# EAGLE library part SD103ATW-7-F (library kmod-discretesemi)
Diode array: 3x Such as http://www.digikey.com/product-search/en?part=SD103ATW-FDICT-ND
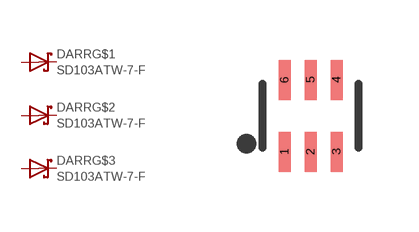
[diagram p0: symbol with the pads of SOT363; footprint SOT363]

Designator prefix DARR; gates G$1=DIODE_SCHOTTKY G$2=DIODE_SCHOTTKY G$3=DIODE_SCHOTTKY

## SD103ATW-7-F  [SOT363]
1  G$1:C  pas
2  G$2:C  pas
3  G$3:C  pas
4  G$3:A  pas
5  G$2:A  pas
6  G$1:A  pas

## Footprint SOT363 (pad centres in mm)
SOT363 Copied from somewhere; seemed to work well, but made pads longer anyway.
smd 0.3 x 1: 1 -0.65,-0.9; 2 0,-0.9; 3 0.65,-0.9; 4 0.65,0.9; 5 0,0.9; 6 -0.65,0.9